# EAGLE library part ANSCHALTER-PACKAGE (library Anschalter)
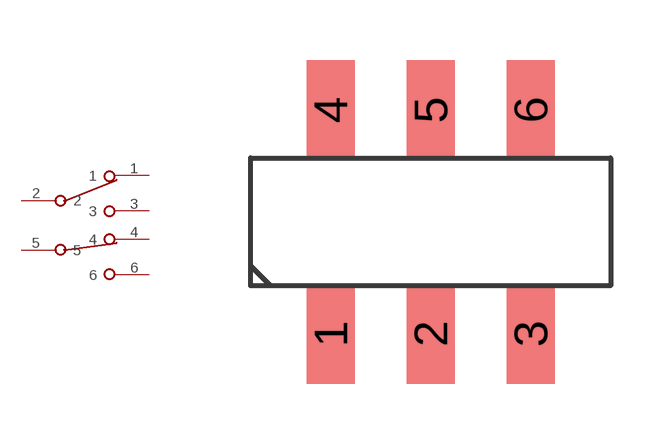
[diagram p0: symbol with the pads of PACKAGE; footprint PACKAGE]

Designator prefix -

## ANSCHALTER-PACKAGE  [PACKAGE]
1  1
2  2
3  3
4  4
5  5
6  6

## Footprint PACKAGE (pad centres in mm)
smd 1.2 x 2.5: 1 -2.5,-2.8; 2 0,-2.8; 3 2.5,-2.8; 4 -2.5,2.8; 5 0,2.8; 6 2.5,2.8